# Altium footprint library SM_L_6MMX6MMX2.8MM.PcbLib: 1 footprints
Each footprint in its own frame and in the unit in brackets; x right, y up, seen from the top. Pads: shape width x height; smd on the part's side, far side on the other; paste and mask are expansions set on the pad; w line width, h text height; cw(c..) or ccw(c..) is an arc to the next point about the centre after c.
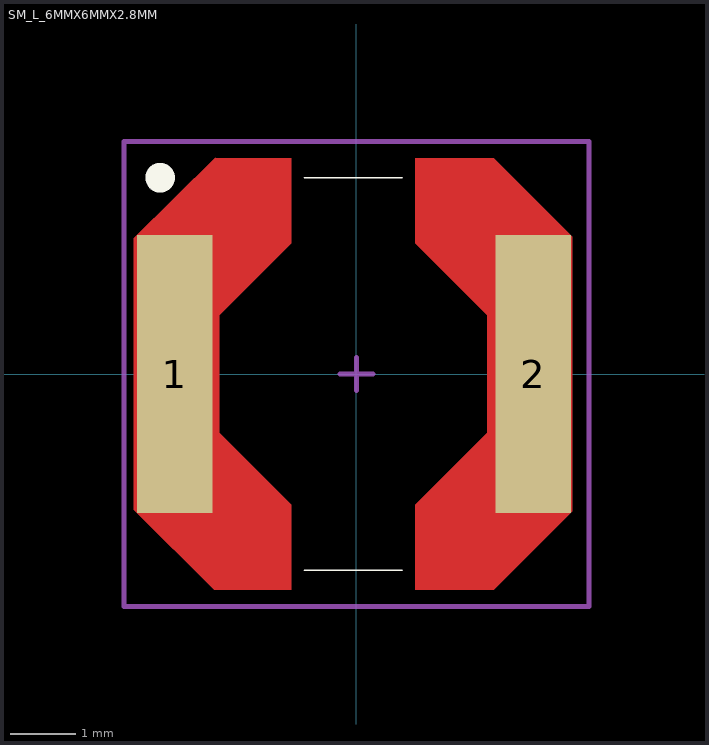
[diagram p0: the footprint, top view; thin cyan lines are the x and y axes]

## SM_L_6MMX6MMX2.8MM [mm] "6mm x 6mm x 2.8mm"
height 2.8
pads (2):
  rect 1.15x4.25 smd: 1(-2.775,0) 2(2.7,0)
Top Layer:
  region: 0.9,3.3 0.9,2 2,0.9 2,-0.9 0.9,-2 0.9,-3.3 2.1,-3.3 3.3,-2.1 3.3,2.1 2.1,3.3
  region: -1,-3.3 -1,-2 -2.1,-0.9 -2.1,0.9 -1,2 -1,3.3 -2.159,3.302 -3.4,2.075 -3.4,-2.075 -2.175,-3.3
Top Overlay:
  circle w0.254: c-3,3 r0.1
  lines w0.025: -0.8,-3 0.7,-3 ; -0.8,3 0.7,3
Top Paste:
  region: 3.275,-2.125 2.1,-3.3 0.95,-3.3 2.125,-2.125 2.125,2.125 0.95,3.3 2.1,3.3 3.275,2.125
  region: -3.35,2.125 -2.175,3.3 -1.025,3.3 -2.2,2.125 -2.2,-2.125 -1.025,-3.3 -2.175,-3.3 -3.35,-2.125
Top Solder:
  region: 2.225,-3.4 0.8,-3.4 0.8,-2 1.905,-0.889 1.905,0.889 0.8,2 0.8,3.4 2.2,3.4 3.4,2.2 3.4,-2.225
  region: -2.275,3.4 -0.9,3.4 -0.9,2 -2.032,0.864 -2.032,-0.864 -0.9,-2 -0.9,-3.4 -2.3,-3.4 -3.5,-2.2 -3.5,2.175
Mechanical 15:
  lines w0.076: -0.254,0 0.254,0 ; 0,-0.254 0,0.254 ; -3.556,-3.556 3.556,-3.556 3.556,3.556 -3.556,3.556 -3.556,-3.556
3D body: height 3.36, standoff 3.36, extent -2.8,-2.8 2.8,2.8
3D body: height 3.36, standoff 0, extent -3,-3 3,3